# Altium footprint library 2002_A_CapteurMeteoWifi.PcbLib: 17 footprints (part 2 of 2)
Each footprint in its own frame and in the unit in brackets; x right, y up, seen from the top. Pads: shape width x height; smd on the part's side, far side on the other; paste and mask are expansions set on the pad; w line width, h text height; cw(c..) or ccw(c..) is an arc to the next point about the centre after c.
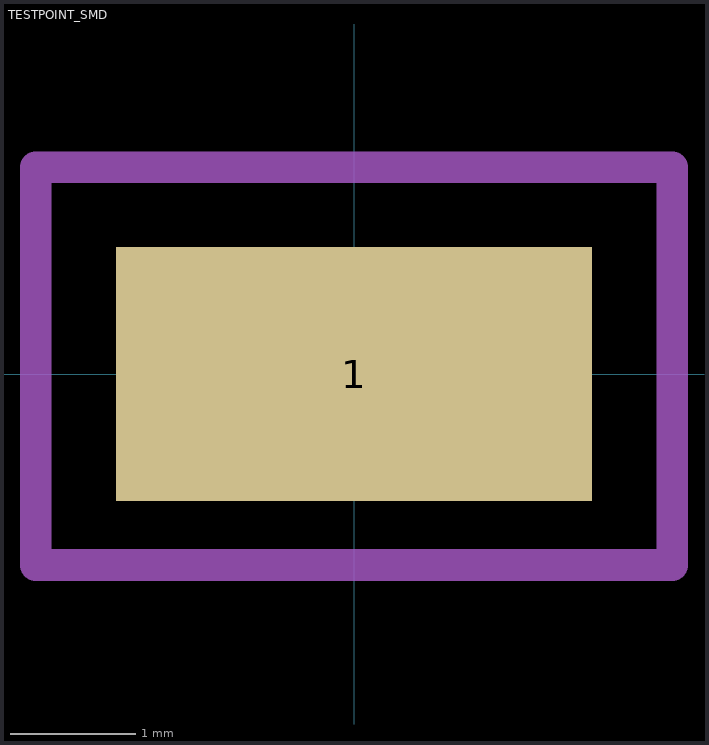
[diagram p1: the footprint, top view; thin cyan lines are the x and y axes]

## TESTPOINT_SMD [mm]
pads (1):
  rect 3.8x2.03 smd: 1(0,0)
Mechanical 15:
  lines w0.254: -2.54,-1.524 2.54,-1.524 2.54,1.651 -2.54,1.651 -2.54,-1.524
3D body "testpoint.STEP": height 2.29, standoff 0, extent -1.905,-1.016 1.905,1.014